# Altium footprint library Vout.PcbLib: 1 footprints
Each footprint in its own frame and in the unit in brackets; x right, y up, seen from the top. Pads: shape width x height; smd on the part's side, far side on the other; paste and mask are expansions set on the pad; w line width, h text height; cw(c..) or ccw(c..) is an arc to the next point about the centre after c.
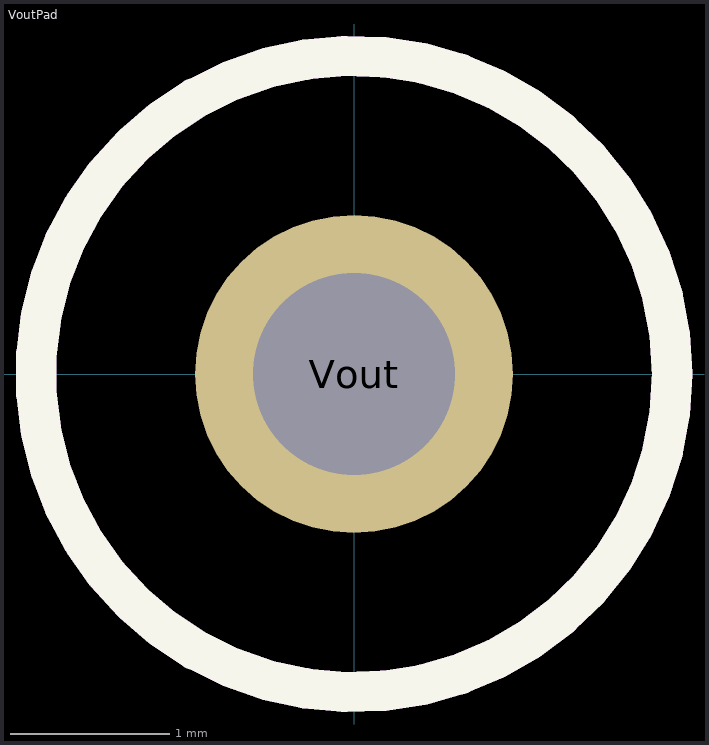
[diagram p0: the footprint, top view; thin cyan lines are the x and y axes]

## VoutPad [mm]
pads (1):
  round 2 hole 1.27: Vout(0,0)
Top Overlay:
  circle w0.254: c0,0 r2
Mechanical 1:
  circle w0.254: c0,0 r2